# Altium footprint library RF_Converter.PcbLib: 7 footprints
Each footprint in its own frame and in the unit in brackets; x right, y up, seen from the top. Pads: shape width x height; smd on the part's side, far side on the other; paste and mask are expansions set on the pad; w line width, h text height; cw(c..) or ccw(c..) is an arc to the next point about the centre after c.
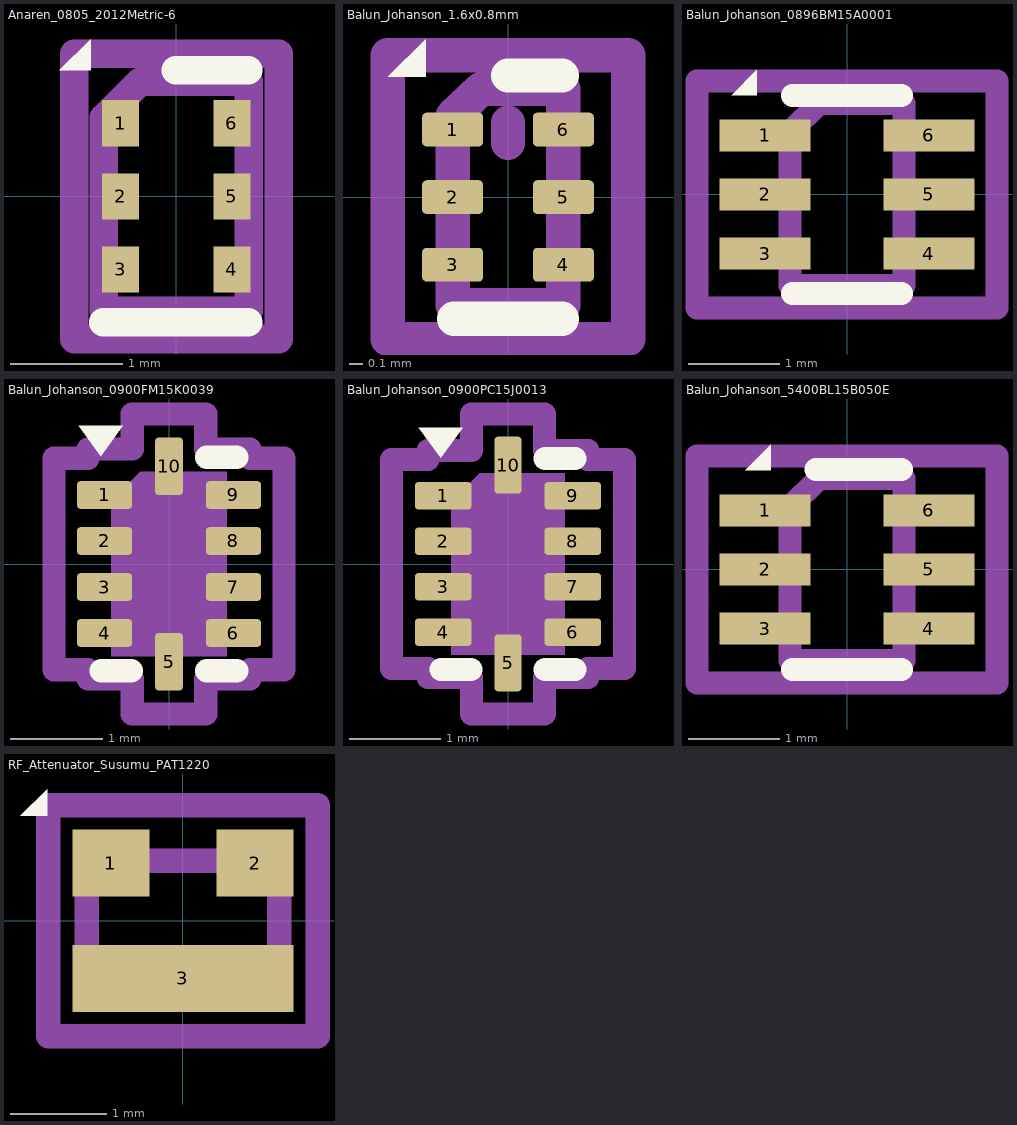
[diagram p0: the footprints below, top view; thin cyan lines are the x and y axes]

## Anaren_0805_2012Metric-6 [mm]
pads (6):
  rect 0.33x0.41 smd: 1(-0.495,0.65) 2(-0.495,0) 3(-0.495,-0.65) 4(0.495,-0.65) 5(0.495,0) 6(0.495,0.65)
F.SilkS:
  region: -0.76,1.12 -1.04,1.12 -0.76,1.4
  lines w0.254: -0.65,-1.12 0.64,-1.12 ; -0.005,1.12 0.64,1.12
F.Fab:
  lines w0.254: -0.645,-1.02 -0.645,0.697 -0.323,1.02 0.645,1.02 0.645,-1.02 -0.645,-1.02
  text "'.Designator'" at 0.42,-2.023 h0.5
F.CrtYd:
  lines w0.254: -0.91,-1.27 -0.91,1.27 0.91,1.27 0.91,-1.27 -0.91,-1.27

## Balun_Johanson_1.6x0.8mm [mm]
pads (6):
  rrect25% 0.45x0.25 smd: 1(-0.41,0.5) 2(-0.41,0) 3(-0.41,-0.5) 4(0.41,-0.5) 5(0.41,0) 6(0.41,0.5)
F.SilkS:
  region: -0.61,0.89 -0.89,0.89 -0.61,1.17
  lines w0.254: -0.4,-0.9 0.4,-0.9 ; 0,0.9 0.4,0.9
F.Fab:
  lines w0.254: 0,0.4 0,0.55 ; -0.41,-0.8 -0.41,0.6 -0.2,0.8 0.41,0.8 0.41,-0.8 -0.41,-0.8
  text "'.Designator'" at -4.037,2.235 h1
F.CrtYd:
  lines w0.254: -0.89,-1.05 -0.89,1.05 0.89,1.05 0.89,-1.05 -0.89,-1.05

## Balun_Johanson_0896BM15A0001 [mm]
pads (6):
  rect 1x0.35 smd: 1(-0.9,0.65) 2(-0.9,0) 3(-0.9,-0.65) 4(0.9,-0.65) 5(0.9,0) 6(0.9,0.65)
F.SilkS:
  region: -0.99,1.09 -1.27,1.09 -0.99,1.37
  lines w0.254: -0.6,-1.09 0.6,-1.09 ; -0.6,1.09 0.6,1.09
F.Fab:
  lines w0.254: -0.625,-1 -0.625,0.687 -0.312,1 0.625,1 0.625,-1 -0.625,-1
  text "'.Designator'" at 0.47,-1.923 h0.5
F.CrtYd:
  lines w0.254: -1.65,-1.25 -1.65,1.25 1.65,1.25 1.65,-1.25 -1.65,-1.25

## Balun_Johanson_0900FM15K0039 [mm]
pads (10):
  rrect25% 0.6x0.3 smd: 1(-0.7,0.75) 2(-0.7,0.25) 3(-0.7,-0.25) 4(-0.7,-0.75) 6(0.7,-0.75) 7(0.7,-0.25) 8(0.7,0.25) 9(0.7,0.75)
  rrect25% 0.3x0.625 smd: 5(0,-1.062) 10(0,1.062)
F.SilkS:
  region: -0.74,1.17 -0.98,1.5 -0.5,1.5
  lines w0.254: -0.735,-1.16 -0.41,-1.16 ; 0.41,-1.16 0.735,-1.16 ; 0.41,1.16 0.735,1.16
F.Fab:
  region: 0.625,-1 -0.625,-1 -0.625,0.687 -0.312,1 0.625,1
  text "'.Designator'" at 0.425,-2.028 h0.5
F.CrtYd:
  lines w0.254: -1.25,-1.15 -1.25,1.15 -0.88,1.15 -0.88,1.25 -0.4,1.25 -0.4,1.63 0.4,1.63 0.4,1.25 0.88,1.25 0.88,1.15 1.25,1.15 1.25,-1.15 0.88,-1.15 0.88,-1.25 0.4,-1.25 0.4,-1.63 -0.4,-1.63 -0.4,-1.25 -0.88,-1.25 -0.88,-1.15 -1.25,-1.15

## Balun_Johanson_0900PC15J0013 [mm]
pads (10):
  rrect25% 0.625x0.3 smd: 1(-0.713,0.75) 2(-0.713,0.25) 3(-0.713,-0.25) 4(-0.713,-0.75) 6(0.713,-0.75) 7(0.713,-0.25) 8(0.713,0.25) 9(0.713,0.75)
  rrect25% 0.3x0.625 smd: 5(0,-1.088) 10(0,1.088)
F.SilkS:
  region: -0.74,1.17 -0.98,1.5 -0.5,1.5
  lines w0.254: -0.735,-1.16 -0.41,-1.16 ; 0.41,-1.16 0.735,-1.16 ; 0.41,1.16 0.735,1.16
F.Fab:
  region: 0.625,-1 -0.625,-1 -0.625,0.687 -0.312,1 0.625,1
  text "'.Designator'" at 0.425,-2.028 h0.5
F.CrtYd:
  lines w0.254: -1.28,-1.15 -1.28,1.15 -0.88,1.15 -0.88,1.25 -0.4,1.25 -0.4,1.65 0.4,1.65 0.4,1.25 0.88,1.25 0.88,1.15 1.28,1.15 1.28,-1.15 0.88,-1.15 0.88,-1.25 0.4,-1.25 0.4,-1.65 -0.4,-1.65 -0.4,-1.25 -0.88,-1.25 -0.88,-1.15 -1.28,-1.15

## Balun_Johanson_5400BL15B050E [mm]
pads (6):
  rect 1x0.35 smd: 1(-0.9,0.65) 2(-0.9,0) 3(-0.9,-0.65) 4(0.9,-0.65) 5(0.9,0) 6(0.9,0.65)
F.SilkS:
  region: -0.84,1.09 -1.12,1.09 -0.84,1.37
  lines w0.254: -0.6,-1.1 0.6,-1.1 ; -0.34,1.1 0.6,1.1
F.Fab:
  lines w0.254: -0.625,-1 -0.625,0.687 -0.312,1 0.625,1 0.625,-1 -0.625,-1
  text "'.Designator'" at 0.47,-1.923 h0.5
F.CrtYd:
  lines w0.254: -1.65,-1.25 -1.65,1.25 1.65,1.25 1.65,-1.25 -1.65,-1.25

## RF_Attenuator_Susumu_PAT1220 [mm]
pads (3):
  rect 0.8x0.7 smd: 1(-0.75,0.6) 2(0.75,0.6)
  rect 2.3x0.7 smd: 3(0,-0.6)
F.SilkS:
  region: -1.41,1.09 -1.69,1.09 -1.41,1.37
F.Fab:
  lines w0.254: -1,-0.625 -1,0.312 -0.687,0.625 1,0.625 1,-0.625 -1,-0.625
  text "'.Designator'" at -2.023,-0.42 h0.5
F.CrtYd:
  lines w0.254: -1.4,-1.2 -1.4,1.2 1.4,1.2 1.4,-1.2 -1.4,-1.2